# Altium footprint library Switch.PcbLib: 31 footprints (part 1 of 2)
Each footprint in its own frame and in the unit in brackets; x right, y up, seen from the top. Pads: shape width x height; smd on the part's side, far side on the other; paste and mask are expansions set on the pad; w line width, h text height; cw(c..) or ccw(c..) is an arc to the next point about the centre after c.
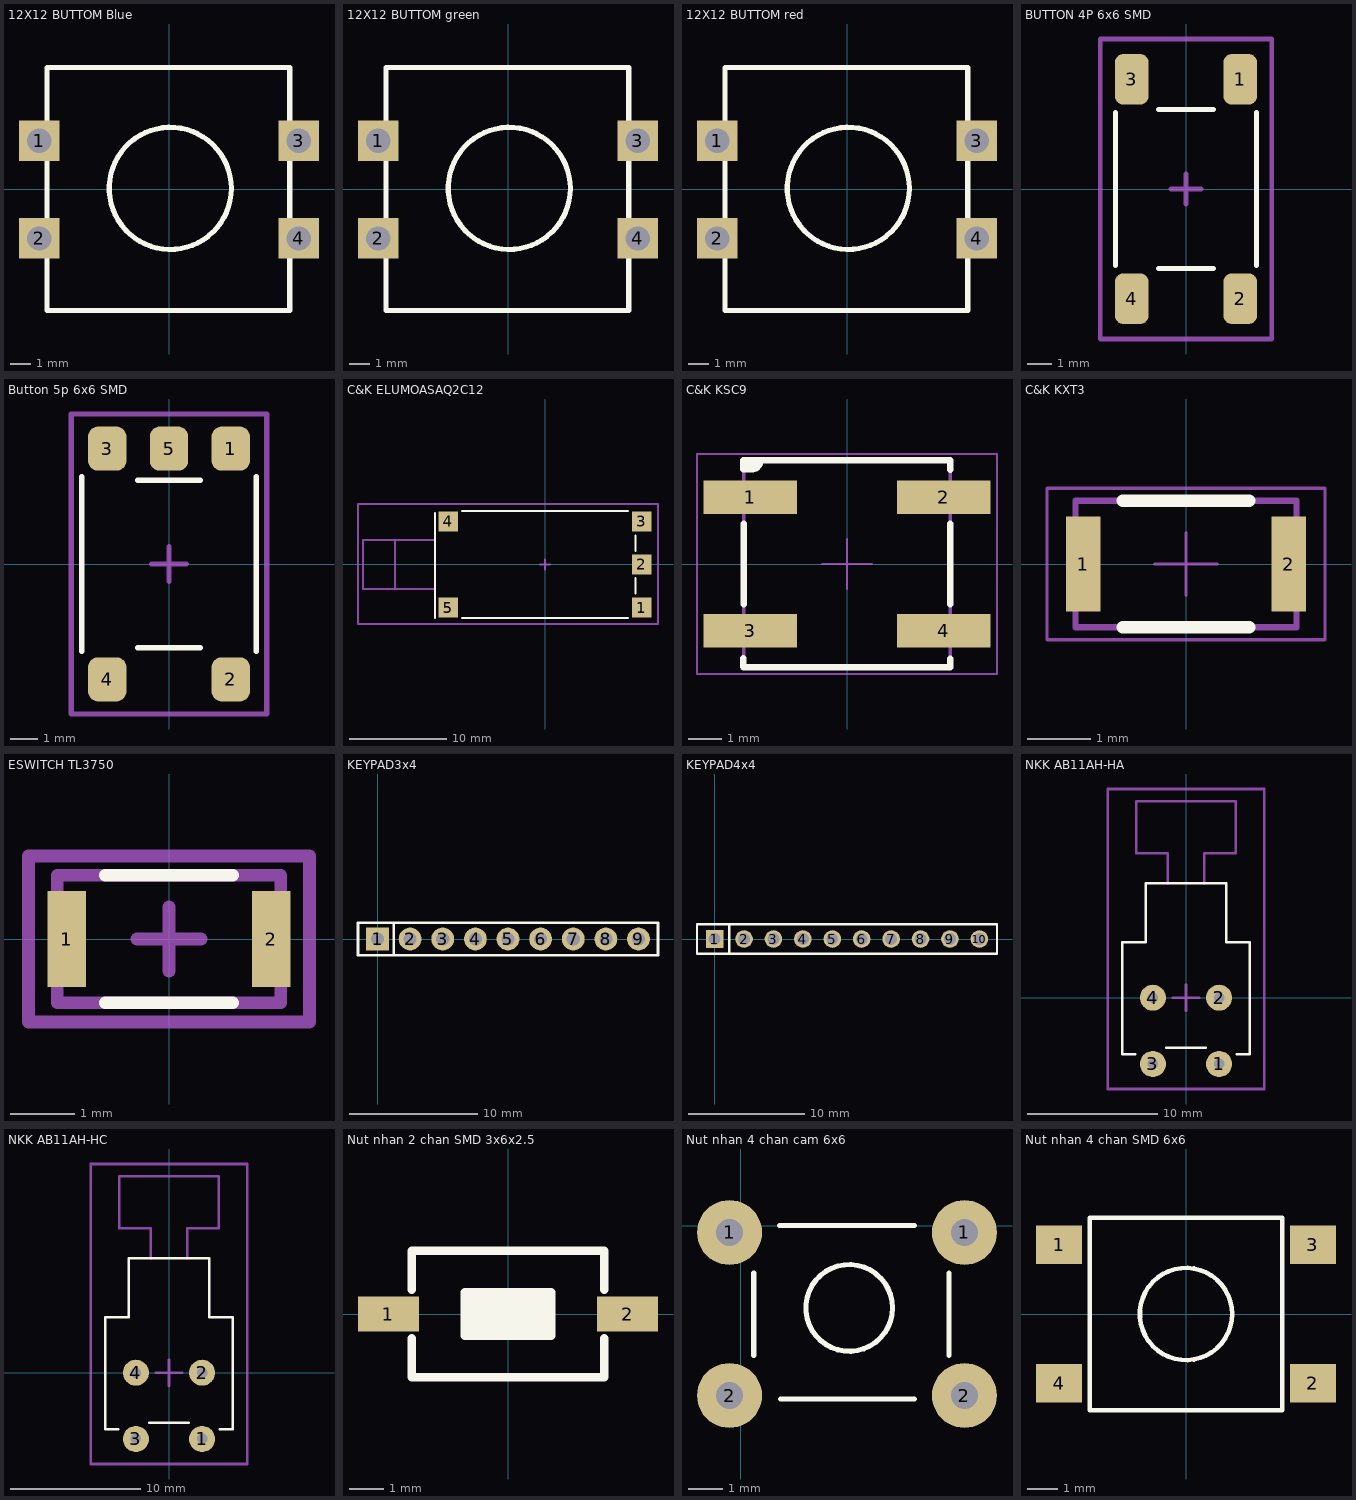
[diagram p0: the footprints below, top view; thin cyan lines are the x and y axes]

## 12X12 BUTTOM Blue [mm]
pads (4):
  rect 2x2 hole 1.2: 1(-6.413,2.38) 2(-6.413,-2.446) 3(6.413,2.38) 4(6.413,-2.446)
Top Overlay:
  circle w0.254: c0.064,0.031 r3.019
  lines w0.254: -6.032,-6 5.967,-6 5.967,6 -6.032,6 -6.032,-6
3D body "12mmx12mm With Blue cap.stp": height 8.84, standoff -3.05, extent -6.708,-6.032 6.708,5.982

## 12X12 BUTTOM green [mm]
pads (4):
  rect 2x2 hole 1.2: 1(-6.413,2.38) 2(-6.413,-2.446) 3(6.413,2.38) 4(6.413,-2.446)
Top Overlay:
  circle w0.254: c0.064,0.031 r3.019
  lines w0.254: -6.032,-6 -6.032,6 5.967,6 5.967,-6 -6.032,-6
3D body "12mmx12mm With Green cap.stp": height 8.84, standoff -3.05, extent -6.734,-5.982 6.683,6.033

## 12X12 BUTTOM red [mm]
pads (4):
  rect 2x2 hole 1.2: 1(-6.413,2.38) 2(-6.413,-2.446) 3(6.413,2.38) 4(6.413,-2.446)
Top Overlay:
  circle w0.254: c0.064,0.031 r3.019
  lines w0.254: -6.032,-6 5.967,-6 5.967,6 -6.032,6 -6.032,-6
3D body "12mmx12mm With Red cap.stp": height 8.84, standoff -3.05, extent -6.708,-6.007 6.708,6.007

## BUTTON 4P 6x6 SMD [mm]
height 5.08
pads (4):
  rrect50% 1.4x2.1 smd: 1(2.25,4.55) 2(2.25,-4.55) 3(-2.25,4.55) 4(-2.25,-4.55)
Top Overlay:
  lines w0.2: -2.921,-3.175 -2.921,3.175 ; -1.143,-3.302 1.143,-3.302 ; -1.143,3.302 1.143,3.302 ; 2.921,-3.175 2.921,3.175
Mechanical 15:
  lines w0.2: -0.635,0 0.635,0 ; 0,-0.635 0,0.635 ; -3.556,-6.223 -3.556,6.223 3.556,6.223 3.556,-6.223 -3.556,-6.223
3D body "FSM4JSMA.STEP": height 5.08, standoff 0, extent -3,-5 3,5

## Button 5p 6x6 SMD [mm]
height 3.1
pads (5):
  rrect50% 1.395x1.6 smd: 1(2.25,4.2) 2(2.25,-4.2) 3(-2.25,4.2) 4(-2.25,-4.2) 5(0,4.2)
Top Overlay:
  lines w0.2: -3.175,-3.175 -3.175,3.175 ; -1.143,-3.048 1.143,-3.048 ; -1.143,3.048 1.143,3.048 ; 3.175,-3.175 3.175,3.175
Mechanical 15:
  lines w0.2: -0.635,0 0.635,0 ; 0,-0.635 0,0.635 ; -3.556,-5.461 3.556,-5.461 3.556,5.461 -3.556,5.461 -3.556,-5.461
3D body "FSM1LPATR.STEP": height 3.1, standoff 0, extent -3.1,-4 3.1,4

## C&K ELUMOASAQ2C12 [mm]
height 6.01
pads (5):
  rect 2.03x2.03 smd: 1(9.93,-4.42) 2(9.93,0) 3(9.93,4.42) 4(-9.93,4.42) 5(-9.93,-4.42)
Top Overlay:
  lines w0.2: -11.3,-5.5 -11.3,5.3 ; -8.5,-5.5 8.5,-5.5 ; -8.5,5.5 8.5,5.5 ; 9.3,-3 9.3,-1.4 ; 9.3,1.4 9.3,3
Mechanical 1:
  lines w0.2: -15.4,-2.5 -15.4,2.5 ; -11.3,-2.5 -18.7,-2.5 -18.7,2.5 -11.3,2.5
Mechanical 15:
  lines w0.2: -0.5,0 0.5,0 ; 0,-0.5 0,0.5 ; -19.2,-6.1 11.6,-6.1 11.6,6.2 -19.2,6.2 -19.2,-6.1
3D body "ELUMOASAQ2C12.STEP": height 5.59, standoff 0.25, extent -18.709,-5.715 10.415,5.715

## C&K KSC9 [mm] "C&K KSC9, 4 Pins, 6.2x6.2x7.7mm, 4.0mm Pitch"
height 7.7
pads (4):
  rect 2.8x1 smd: 1(-2.9,2) 2(2.9,2) 3(-2.9,-2) 4(2.9,-2)
Top Overlay:
  region: -3.108,3.108 -3.1,3.1 -2.605,3.1 -2.865,2.84 -3.108,2.84
  lines w0.2: -3.115,-2.832 -3.115,-3.085 -3.1,-3.1 3.1,-3.1 3.1,-2.845 ; -3.1,-1.2 -3.1,1.2 ; -2.605,3.1 cw(c-2.865,3.1) -2.865,2.84 -3.108,2.84 -3.108,3.108 3.1,3.108 3.1,2.835 ; 3.1,-1.2 3.1,1.2
Mechanical 13:
  lines w0.1: -3.1,3.1 -3.1,-3.1 3.1,-3.1 3.1,3.1 ; -3.099,3.095 3.101,3.095
Mechanical 15:
  lines w0.05: -0.762,0 0.762,0 ; 0,-0.762 0,0.762 ; -4.5,-3.3 4.5,-3.3 4.5,3.3 -4.5,3.3 -4.5,-3.3
3D body "C&K - KSC9.step": height 7.9, standoff 0.2, extent -3.4,-3.15 3.4,3.15

## C&K KXT3 [mm]
height 0.6
pads (2):
  rect 0.55x1.5 smd: 1(-1.625,0) 2(1.625,0)
Top Overlay:
  lines w0.2: -1,-1 1,-1 ; -1,1 1,1
Mechanical 13:
  lines w0.1: -1.75,-1 1.75,-1 1.75,1 -1.75,1 -1.75,-1
Mechanical 15:
  lines w0.05: -0.5,0 0.5,0 ; 0,-0.5 0,0.5 ; -2.2,-1.2 -2.2,1.2 2.2,1.2 2.2,-1.2 -2.2,-1.2
3D body "C&K KXT.STEP": height 0.58, standoff 0, extent -1.75,-1 1.75,1

## ESWITCH TL3750 [mm]
height 0.6
pads (2):
  rect 0.6x1.5 smd: 1(-1.6,0) 2(1.6,0)
Top Overlay:
  lines w0.2: -1,-1 1,-1 ; -1,1 1,1
Mechanical 1:
  lines w0.2: -1.75,-1 1.75,-1 1.75,1 -1.75,1 -1.75,-1
Mechanical 15:
  lines w0.2: -0.5,0 0.5,0 ; 0,-0.5 0,0.5 ; -2.2,-1.3 2.2,-1.3 2.2,1.3 -2.2,1.3 -2.2,-1.3
3D body "TL3750AFxxxQG.STEP": height 0.58, standoff 0, extent -1.75,-1 1.75,1

## KEYPAD3x4 [mil]
pads (9):
  rect 70x70 hole 40.16: 1(0,0)
  round 70 hole 40.16: 2(100,0) 3(200,0) 4(300,0) 5(400,0) 6(500,0) 7(600,0) 8(700,0) 9(800,0)
Top Overlay:
  lines w7.87: 50,-50 50,50 ; -59.84,-50 859.85,-50 859.85,50 -59.84,50 -59.84,-50
3D body "61300911821.stp": height 335.04, standoff -121.65, extent -59.84,-49.21 859.85,49.22
3D body "User Library-Keypad 3x4.STEP": height 897.64, standoff 0, extent -629.53,-123 1431.53,2623.06

## KEYPAD4x4 [mm]
pads (10):
  rect 1.52x1.52 hole 1.02: 1(0,0.025)
  round 1.52 hole 1.02: 2(2.54,0.025) 3(5.08,0.025) 4(7.62,0.025) 5(10.16,0.025) 6(12.7,0.025) 7(15.24,0.025) 8(17.78,0.025) 9(20.32,0.025) 10(22.86,0.025)
Top Overlay:
  lines w0.2: 1.27,-1.245 1.27,1.295 ; -1.52,-1.245 -1.52,1.295 0.635,1.295 24.38,1.295 24.38,-1.245 -1.52,-1.245
3D body "User Library-Keypad 4x4.STEP": height 17.16, standoff 7.76, extent -21.057,-1.905 44.221,65.913
3D body "61301011821.stp": height 8.51, standoff -3.09, extent -1.52,-1.224 24.38,1.276

## NKK AB11AH-HA [mm]
height 6.18
pads (4):
  round 2 hole 0.8: 1(2.54,-5.08) 2(2.54,0) 3(-2.54,-5.08) 4(-2.54,0)
Top Overlay:
  lines w0.2: -3.9,-4.34 -4.9,-4.34 -4.9,4.26 -3.1,4.26 -3.1,8.76 3.1,8.76 3.1,4.26 4.9,4.26 4.9,-4.34 3.9,-4.34 ; -1.5,-3.84 1.5,-3.84
Mechanical 1:
  lines w0.2: -1.4,8.76 -1.4,11.06 -3.8,11.06 -3.8,15.06 3.8,15.06 3.8,11.06 1.4,11.06 1.4,8.76
Mechanical 15:
  lines w0.2: -1,0 1,0 ; 0,-1 0,1 ; -6,-7 -6,16 6,16 6,-7 -6,-7
3D body "NKK AB11AH-HA.STEP": height 7.06, standoff -3.1, extent -4.902,-5.39 4.902,15.082

## NKK AB11AH-HC [mm]
height 6.18
pads (4):
  round 2 hole 0.8: 1(2.54,-5.08) 2(2.54,0) 3(-2.54,-5.08) 4(-2.54,0)
Top Overlay:
  lines w0.2: -3.9,-4.34 -4.9,-4.34 -4.9,4.26 -3.1,4.26 -3.1,8.76 3.1,8.76 3.1,4.26 4.9,4.26 4.9,-4.34 3.9,-4.34 ; -1.5,-3.84 1.5,-3.84
Mechanical 1:
  lines w0.2: -1.4,8.76 -1.4,11.06 -3.8,11.06 -3.8,15.06 3.8,15.06 3.8,11.06 1.4,11.06 1.4,8.76
Mechanical 15:
  lines w0.2: -1,0 1,0 ; 0,-1 0,1 ; -6,-7 -6,16 6,16 6,-7 -6,-7
3D body "NKK AB11AH-HC.STEP": height 7.06, standoff -3.1, extent -4.902,-5.39 4.902,15.082

## Nut nhan 2 chan SMD 3x6x2.5 [mil] "Switch SMD type"
pads (2):
  rect 70x40 smd: 1(-137.8,0) 2(137.8,0)
Top Overlay:
  rectangle: -50,-25 50,25
  lines w10: -111,-28 -111,-73 111,-73 111,-28 ; -111,28 -111,73 111,73 111,28 ; -50,-25 50,-25 50,25 -50,25 -50,-25
3D body "User Library-Button-SMD.step": height 98.43, standoff 0, extent -120.07,-72.83 120.09,72.84

## Nut nhan 4 chan cam 6x6 [mil] "SW button 4pin, 250 x250 mil"
height 100
pads (4):
  round 75 hole 31: 1(-13,-8) 1(258,-8) 2(-13,-196) 2(258,-196)
Top Overlay:
  circle w6: c125,-95 r50
  lines w6: 15,-150 15,-55 ; 45,0 200,0 ; 46,-200 200,-200 ; 240,-150 240,-55
  lines w7: 239,-215 240,-214
3D body "SW3dPS-.STEP": height 275.59, standoff -137.8, extent -30.51,-225 280.51,19.09

## Nut nhan 4 chan SMD 6x6 [mil] "SW SMD button 4pin, 250 x250 mil"
height 100
pads (4):
  rect 60x50 smd: 1(-165,90) 2(165,-90) 3(165,90) 4(-165,-90)
Top Overlay:
  circle w6: c0,0 r60
  lines w6: -125,-125 125,-125 125,125 -125,125 -125,-125
3D body: height 20, standoff 0, extent -180,-105 -125,-75
3D body: height 20, standoff 0, extent -180,75 -125,105
3D body: height 20, standoff 0, extent 125,75 180,105
3D body: height 20, standoff 0, extent 125,-105 180,-75
3D body: height 80, standoff 10, extent -125,-125 125,125
3D body: height 130, standoff 80, extent -59.76,-59.88 59.76,59.88